# Altium schematic symbol library ADF4351_PLL.SCHLIB: 12 symbols
Pins are listed as number, name and electrical type; pins without a type are passive.

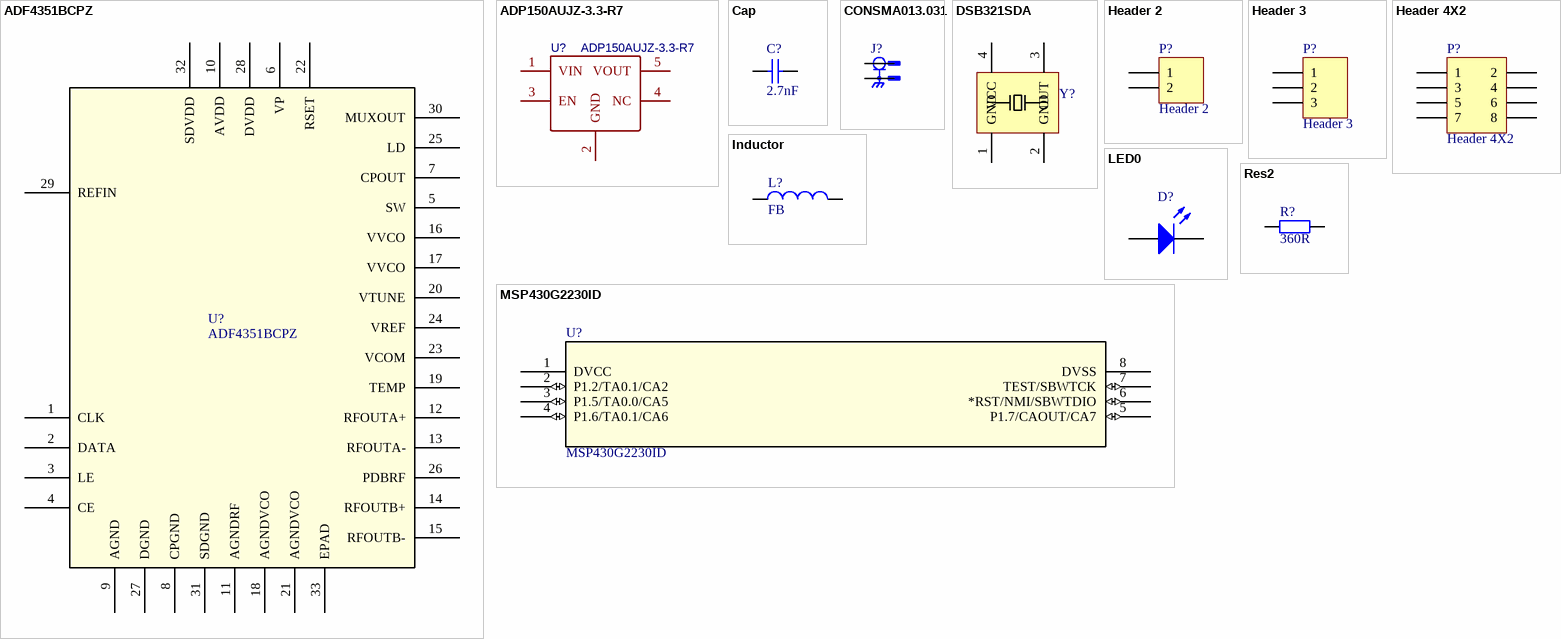
[diagram p0: symbols ADF4351BCPZ to Res2]

## ADF4351BCPZ
designator U?
No Description Available; Copyright: Copyright (C) 2021 Accelerated Designs. All rights reserved; RefDes: RefDes; Type: DEV
footprint CP-32-7_ADI
pins: 1 CLK, 2 DATA, 3 LE, 4 CE, 5 SW, 6 VP, 7 CPOUT, 8 CPGND, 9 AGND, 10 AVDD, 11 AGNDRF, 12 RFOUTA+, 13 RFOUTA-, 14 RFOUTB+, 15 RFOUTB-, 16 VVCO, 17 VVCO, 18 AGNDVCO, 19 TEMP, 20 VTUNE, 21 AGNDVCO, 22 RSET, 23 VCOM, 24 VREF, 25 LD, 26 PDBRF, 27 DGND, 28 DVDD, 29 REFIN, 30 MUXOUT, 31 SDGND, 32 SDVDD, 33 EPAD

## ADP150AUJZ-3.3-R7
designator U?
BOM_Manufacturer: ADI; BOM_Supplier: LCSC; BOM_Manufacturer Part: ADP150AUJZ-3.3-R7; BOM_Supplier Part: C29149; BOM_JLCPCB Part Class: Extended Part; spicePre: U; spiceSymbolName: ADP150AUJZ-3.3-R7
footprint SOT-23-5_L3.0-W1.7-P0.95-LS2.8-BR
pins: 1 VIN, 2 GND, 3 EN, 4 NC, 5 VOUT

## Cap
designator C?  value 2.7nF  (hidden comment: Cap)
Capacitor; Published: 8-Jun-2000; LatestRevisionDate: 17-Jul-2002; LatestRevisionNote: Re-released for DXP Platform.; PackageReference: RAD-0.3; Publisher: Altium Limited; PackageDescription: Radial Cap, Thru-Hole; 2 Leads; 0.3 in Pin Spacing
footprint 0603E
pins: 1, 2

## CONSMA013.031
designator J?
SMA Connector Plug, Male Pin 50Ohm Board Edge, End Launch; Panel Mount Solder; MF: Linx; MP: CONSMA013.031; Price: None; Check_prices: https://www.snapeda.com/parts/CONSMA013.031/Linx/view-part/5842273/?ref=eda; Value: *; SnapEDA_Link: https://www.snapeda.com/parts/CONSMA013.031/Linx/view-part/5842273/?ref=snap; Availability: In Stock; Package: None
footprint SMA
pins: 1, S1 2, S2 2, S3 2, S4 2

## DSB321SDA
designator Y?  (value not drawn)
footprint 3225
footprint 2016 (Footprint not found)
pins: 1 GND, 2 GND, 3 OUT, 4 VCC

## Header 2
designator P?
Header, 2-Pin; LatestRevisionDate: 17-Jul-2002; LatestRevisionNote: Re-released for DXP Platform.; Publisher: Altium Limited
footprint HDR1X2 (Connector; Header; 2 Position)
signal-integrity model Connector
pins: 1, 2

## Header 3
designator P?
Header, 3-Pin; LatestRevisionDate: 17-Jul-2002; LatestRevisionNote: Re-released for DXP Platform.; Publisher: Altium Limited
footprint HDR1X3 (Connector; Header; 3 Position)
signal-integrity model Connector
pins: 1, 2, 3

## Header 4X2
designator P?
Header, 4-Pin, Dual row; LatestRevisionDate: 17-Jul-2002; LatestRevisionNote: Re-released for DXP Platform.; Publisher: Altium Limited
footprint HDR2X4 (Connector; Header; 4x2 Position)
signal-integrity model Connector
pins: 1, 2, 3, 4, 5, 6, 7, 8

## Inductor
designator L?  value FB  (hidden comment: Inductor)
Code_IEC: 1005; Published: 8-Jun-2000; LatestRevisionDate: 29-May-2009; LatestRevisionNote: IPC-7351 Footprint Added.; PackageReference: 0402-A; Publisher: Altium Limited; PackageDescription: Chip Inductor; Code_JEITA: 0402
footprint 0603E
footprint INDC3216 (Chip Inductor, Body 3.2x1.6mm, IPC High Density)
footprint INDC4532 (Chip Inductor, Body 4.5x3.2mm, IPC High Density)
simulation model INDUCTOR (Inductor)
signal-integrity model Inductor
pins: 1, 2

## LED0
designator D?  (value not drawn)
Typical INFRARED GaAs LED; Published: 8-Jun-2000; LatestRevisionDate: 08-Jul-2005; LatestRevisionNote: Mech Layer 1 removed.; PackageReference: LED-0; Publisher: Altium Limited; PackageDescription: LED; 2 Leads
footprint 0603E
simulation model LED0 (Diode)
pins: 1 A, 2 K

## MSP430G2230ID
designator U?
No Description Available; Mfr_Name: Texas Instruments; Copyright: Copyright (C) 2022 Ultra Librarian. All rights reserved.; Manufacturer_Part_Number: MSP430G2230ID; RefDes: RefDes; Type: DEV
footprint D8
pins: 1 DVCC (power), 2 P1.2/TA0.1/CA2 (io), 3 P1.5/TA0.0/CA5 (io), 4 P1.6/TA0.1/CA6 (io), 5 P1.7/CAOUT/CA7 (io), 6 *RST/NMI/SBWTDIO (io), 7 TEST/SBWTCK (io), 8 DVSS (power)

## Res2
designator R?  value 360R  (hidden comment: Res2)
Resistor; Published: 8-Jun-2000; LatestRevisionDate: 17-Jul-2002; LatestRevisionNote: Re-released for DXP Platform.; PackageReference: AXIAL-0.4; Publisher: Altium Limited; PackageDescription: Axial Device, Thru-Hole; 2 Leads; 0.4 in Pin Spacing
footprint 0603E
pins: 1, 2